# Altium schematic symbol library MDF7.Schlib: 1 symbol
Pins are listed as number, name and electrical type; pins without a type are passive.

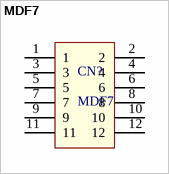
[diagram p0: symbol MDF7]

## MDF7
designator CN?
Connector 6x2
pins: 1, 2, 3, 4, 5, 6, 7, 8, 9, 10, 11, 12